# EAGLE library part 39POS-*MM-? (library con-wurth-board-header)
Wurth Elektronik WR-BHD Male Box Headers
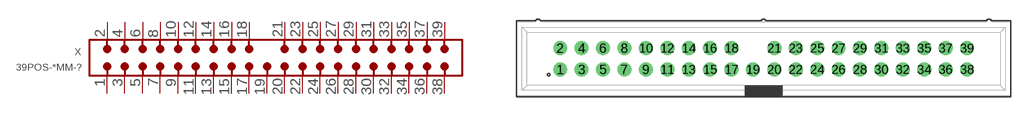
[diagram p15: symbol with the pads of 61203921621; footprint 61203921621]

Designator prefix X

## 39POS-2.54MM-61203921621 (CONTACT-RESISTANCE: 20mOhm; DATASHEET-URL: https://www.we-online.com/redexpert/spec/61203921621?ae; GENDER: Male; IR: 3A; LENGTH: 58.46mm; MOUNT: THT; PACKAGING: Tray; PART-NUMBER: 61203921621; PINS: 39; PITCH: 2.54 mm; TYPE: Straight; VALUE: 61203921621; WORKING-VOLTAGE: 250V(AC))  [61203921621]
1  1  pas
2  2  pas
3  3  pas
4  4  pas
5  5  pas
6  6  pas
7  7  pas
8  8  pas
9  9  pas
10  10  pas
11  11  pas
12  12  pas
13  13  pas
14  14  pas
15  15  pas
16  16  pas
17  17  pas
18  18  pas
19  19  pas
20  20  pas
21  21  pas
22  22  pas
23  23  pas
24  24  pas
25  25  pas
26  26  pas
27  27  pas
28  28  pas
29  29  pas
30  30  pas
31  31  pas
32  32  pas
33  33  pas
34  34  pas
35  35  pas
36  36  pas
37  37  pas
38  38  pas
39  39  pas

## Footprint 61203921621 (pad centres in mm)
WR-BHD 2.54 mm Male Box Header,39 Pins
drill 1.1: 1 -24.13,-1.27; 2 -24.13,1.27; 3 -21.59,-1.27; 4 -21.59,1.27; 5 -19.05,-1.27; 6 -19.05,1.27; 7 -16.51,-1.27; 8 -16.51,1.27; 9 -13.97,-1.27; 10 -13.97,1.27; 11 -11.43,-1.27; 12 -11.43,1.27; 13 -8.89,-1.27; 14 -8.89,1.27; 15 -6.35,-1.27; 16 -6.35,1.27; 17 -3.81,-1.27; 18 -3.81,1.27; 19 -1.27,-1.27; 20 1.27,-1.27; 21 1.27,1.27; 22 3.81,-1.27; 23 3.81,1.27; 24 6.35,-1.27; 25 6.35,1.27; 26 8.89,-1.27; 27 8.89,1.27; 28 11.43,-1.27; 29 11.43,1.27; 30 13.97,-1.27; 31 13.97,1.27; 32 16.51,-1.27; 33 16.51,1.27; 34 19.05,-1.27; 35 19.05,1.27; 36 21.59,-1.27; 37 21.59,1.27; 38 24.13,-1.27; 39 24.13,1.27